# Altium footprint library 电感.PcbLib: 63 footprints (part 3 of 4)
Each footprint in its own frame and in the unit in brackets; x right, y up, seen from the top. Pads: shape width x height; smd on the part's side, far side on the other; paste and mask are expansions set on the pad; w line width, h text height; cw(c..) or ccw(c..) is an arc to the next point about the centre after c.
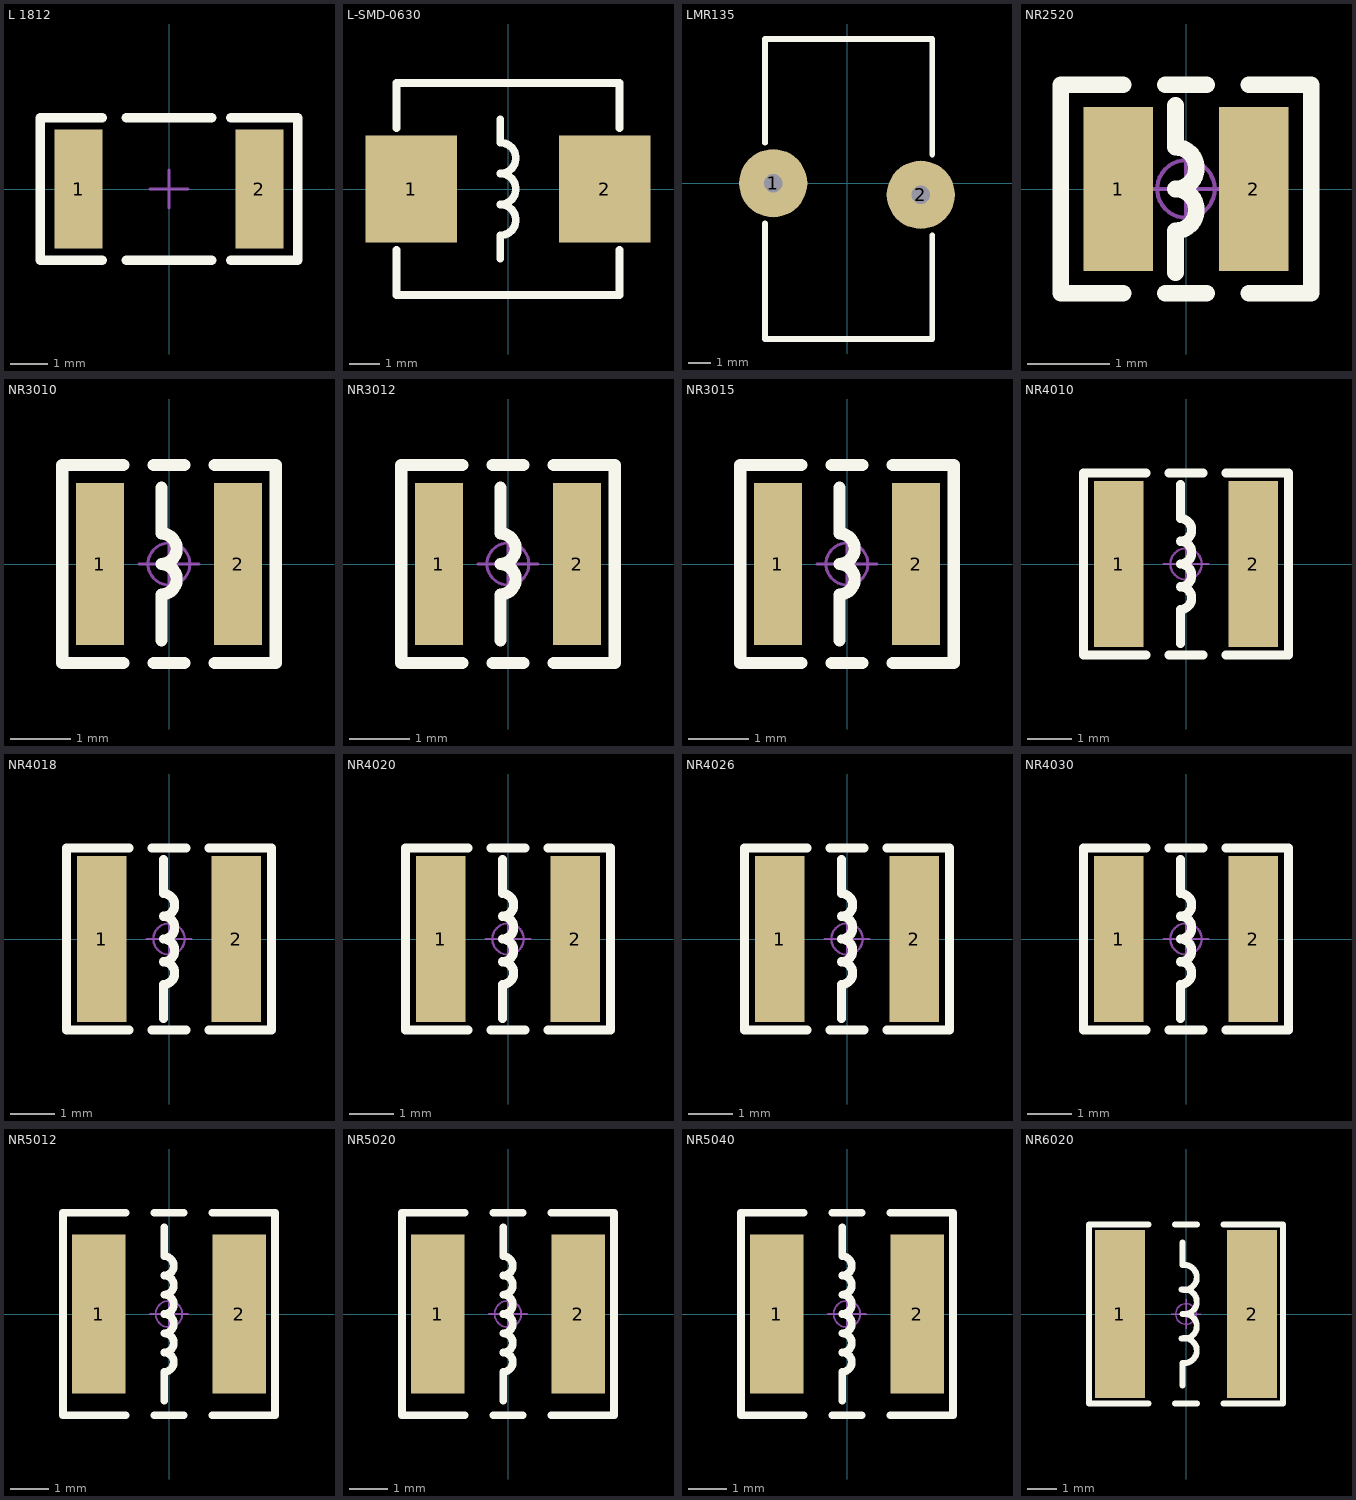
[diagram p2: the footprints below, top view; thin cyan lines are the x and y axes]

## L 1812 [mil] "小功率贴片电感"
pads (2):
  rect 50x125 smd: 1(-95,0) 2(95,0)
Top Overlay:
  lines w10: -70,-75 -135,-75 -135,75 -70,75 ; -45,-75 45,-75 ; -45,75 45,75 ; 65,-75 135,-75 135,75 65,75
Mechanical 15:
  lines w3: -20,0 20,0 ; 0,-20 0,20
3D body "1812.STEP": height 59.06, standoff -0.19, extent -88.58,-62.99 88.58,62.99

## L-SMD-0630 [mm] "一体化成型电感"
pads (2):
  rect 3x3.5 smd: 1(-3.175,0) 2(3.175,0)
Top Overlay:
  lines w0.254: -3.658,-2.007 -3.658,-3.48 3.658,-3.48 3.658,-2.007 ; -3.658,2.007 -3.658,3.48 3.658,3.48 3.658,2.007 ; -0.254,-2.286 -0.254,-1.524 ccw(c-0.254,-1.016) -0.254,-0.508 ccw(c-0.254,0) -0.254,0.508 ccw(c-0.254,1.016) -0.254,1.524 -0.254,2.286
3D body "SMD-0630.STEP": height 3.05, standoff 0.02, extent -3.475,-3.3 3.475,3.3

## LMR135 [mm] "磁环电感，外径13mm，厚度5mm"
pads (2):
  round 3 hole 0.8: 1(-3.25,0) 2(3.25,-0.508)
Top Overlay:
  lines w0.254: -3.608,-1.778 -3.608,-6.858 3.758,-6.858 3.758,-2.286 ; -3.608,1.778 -3.608,6.35 3.758,6.35 3.758,1.27
3D body "LMR135.STEP": height 12.5, standoff -3.51, extent -3.448,-6.755 3.553,6.248

## NR2520 [mm] "2.5mm*2.0mm*1.0mm(长*宽*高）"
pads (2):
  rect 0.85x2 smd: 1(-0.825,0) 2(0.825,0)
Top Overlay:
  lines w0.203: -0.762,-1.27 -1.524,-1.27 -1.524,1.27 -0.762,1.27 ; -0.254,-1.27 0.254,-1.27 ; -0.254,1.27 0.254,1.27 ; -0.127,-1.016 -0.127,-0.508 ccw(c-0.127,-0.254) -0.127,0 ccw(c-0.127,0.254) -0.127,0.508 -0.127,1.016 ; 0.762,-1.27 1.524,-1.27 1.524,1.27 0.762,1.27
Mechanical 15:
  circle w0.05: c0,0 r0.35
  lines w0.05: -0.5,0 0.5,0 ; 0,-0.5 0,0.5
3D body "NR2520.STEP": height 1.1, standoff 0, extent -1.25,-1 1.25,1

## NR3010 [mm] "3.0mm*3.0mm*1.0mm(长*宽*高）"
pads (2):
  rect 0.8x2.7 smd: 1(-1.15,0) 2(1.15,0)
Top Overlay:
  lines w0.203: -0.762,-1.651 -1.778,-1.651 -1.778,1.651 -0.762,1.651 ; -0.254,-1.651 0.254,-1.651 ; -0.254,1.651 0.254,1.651 ; -0.127,-1.27 -0.127,-0.508 ccw(c-0.127,-0.254) -0.127,0 ccw(c-0.127,0.254) -0.127,0.508 -0.127,1.27 ; 0.762,-1.651 1.778,-1.651 1.778,1.651 0.762,1.651
Mechanical 15:
  circle w0.05: c0,0 r0.35
  lines w0.05: -0.5,0 0.5,0 ; 0,-0.5 0,0.5
3D body "NR3010.STEP": height 1.15, standoff 0, extent -1.5,-1.5 1.5,1.5

## NR3012 [mm] "3.0mm*3.0mm*1.2mm(长*宽*高）"
pads (2):
  rect 0.8x2.7 smd: 1(-1.15,0) 2(1.15,0)
Top Overlay:
  lines w0.203: -0.762,-1.651 -1.778,-1.651 -1.778,1.651 -0.762,1.651 ; -0.254,-1.651 0.254,-1.651 ; -0.254,1.651 0.254,1.651 ; -0.127,-1.27 -0.127,-0.508 ccw(c-0.127,-0.254) -0.127,0 ccw(c-0.127,0.254) -0.127,0.508 -0.127,1.27 ; 0.762,-1.651 1.778,-1.651 1.778,1.651 0.762,1.651
Mechanical 15:
  circle w0.05: c0,0 r0.35
  lines w0.05: -0.5,0 0.5,0 ; 0,-0.5 0,0.5
3D body "NR3012.STEP": height 1.35, standoff 0.05, extent -1.5,-1.5 1.5,1.5

## NR3015 [mm] "3.0mm*3.0mm*1.5mm(长*宽*高）"
pads (2):
  rect 0.8x2.7 smd: 1(-1.15,0) 2(1.15,0)
Top Overlay:
  lines w0.203: -0.762,-1.651 -1.778,-1.651 -1.778,1.651 -0.762,1.651 ; -0.254,-1.651 0.254,-1.651 ; -0.254,1.651 0.254,1.651 ; -0.127,-1.27 -0.127,-0.508 ccw(c-0.127,-0.254) -0.127,0 ccw(c-0.127,0.254) -0.127,0.508 -0.127,1.27 ; 0.762,-1.651 1.778,-1.651 1.778,1.651 0.762,1.651
Mechanical 15:
  circle w0.05: c0,0 r0.35
  lines w0.05: -0.5,0 0.5,0 ; 0,-0.5 0,0.5
3D body "NR3015.STEP": height 1.6, standoff 0, extent -1.5,-1.5 1.5,1.5

## NR4010 [mm] "4.0mm*4.0mm*1.0mm(长*宽*高）"
pads (2):
  rect 1.1x3.7 smd: 1(-1.5,0) 2(1.5,0)
Top Overlay:
  lines w0.203: -0.889,-2.032 -2.286,-2.032 -2.286,2.032 -0.889,2.032 ; -0.381,-2.032 0.381,-2.032 ; -0.381,2.032 0.381,2.032 ; -0.127,-1.778 -0.127,-1.016 ccw(c-0.127,-0.762) -0.127,-0.508 ccw(c-0.127,-0.254) -0.127,0 ccw(c-0.127,0.254) -0.127,0.508 ccw(c-0.127,0.762) -0.127,1.016 -0.127,1.778 ; 0.889,-2.032 2.286,-2.032 2.286,2.032 0.889,2.032
Mechanical 15:
  circle w0.05: c0,0 r0.35
  lines w0.05: -0.5,0 0.5,0 ; 0,-0.5 0,0.5
3D body "NR4010.STEP": height 1.1, standoff 0, extent -2,-2 2,2

## NR4018 [mm] "4.0mm*4.0mm*1.8mm(长*宽*高）"
pads (2):
  rect 1.1x3.7 smd: 1(-1.5,0) 2(1.5,0)
Top Overlay:
  lines w0.203: -0.889,-2.032 -2.286,-2.032 -2.286,2.032 -0.889,2.032 ; -0.381,-2.032 0.381,-2.032 ; -0.381,2.032 0.381,2.032 ; -0.127,-1.778 -0.127,-1.016 ccw(c-0.127,-0.762) -0.127,-0.508 ccw(c-0.127,-0.254) -0.127,0 ccw(c-0.127,0.254) -0.127,0.508 ccw(c-0.127,0.762) -0.127,1.016 -0.127,1.778 ; 0.889,-2.032 2.286,-2.032 2.286,2.032 0.889,2.032
Mechanical 15:
  circle w0.05: c0,0 r0.35
  lines w0.05: -0.5,0 0.5,0 ; 0,-0.5 0,0.5
3D body "NR4018.STEP": height 1.9, standoff 0, extent -2,-2 2,2

## NR4020 [mm] "4.0mm*4.0mm*2.0mm(长*宽*高）"
pads (2):
  rect 1.1x3.7 smd: 1(-1.5,0) 2(1.5,0)
Top Overlay:
  lines w0.203: -0.889,-2.032 -2.286,-2.032 -2.286,2.032 -0.889,2.032 ; -0.381,-2.032 0.381,-2.032 ; -0.381,2.032 0.381,2.032 ; -0.127,-1.778 -0.127,-1.016 ccw(c-0.127,-0.762) -0.127,-0.508 ccw(c-0.127,-0.254) -0.127,0 ccw(c-0.127,0.254) -0.127,0.508 ccw(c-0.127,0.762) -0.127,1.016 -0.127,1.778 ; 0.889,-2.032 2.286,-2.032 2.286,2.032 0.889,2.032
Mechanical 15:
  circle w0.05: c0,0 r0.35
  lines w0.05: -0.5,0 0.5,0 ; 0,-0.5 0,0.5
3D body "NR4020.STEP": height 2.1, standoff 0, extent -2,-2 2,2

## NR4026 [mm] "4.0mm*4.0mm*2.6mm(长*宽*高）"
pads (2):
  rect 1.1x3.7 smd: 1(-1.5,0) 2(1.5,0)
Top Overlay:
  lines w0.203: -0.889,-2.032 -2.286,-2.032 -2.286,2.032 -0.889,2.032 ; -0.381,-2.032 0.381,-2.032 ; -0.381,2.032 0.381,2.032 ; -0.127,-1.778 -0.127,-1.016 ccw(c-0.127,-0.762) -0.127,-0.508 ccw(c-0.127,-0.254) -0.127,0 ccw(c-0.127,0.254) -0.127,0.508 ccw(c-0.127,0.762) -0.127,1.016 -0.127,1.778 ; 0.889,-2.032 2.286,-2.032 2.286,2.032 0.889,2.032
Mechanical 15:
  circle w0.05: c0,0 r0.35
  lines w0.05: -0.5,0 0.5,0 ; 0,-0.5 0,0.5
3D body "NR4026.STEP": height 2.7, standoff 0, extent -2,-2 2,2

## NR4030 [mm] "4.0mm*4.0mm*3.0mm(长*宽*高）"
pads (2):
  rect 1.1x3.7 smd: 1(-1.5,0) 2(1.5,0)
Top Overlay:
  lines w0.203: -0.889,-2.032 -2.286,-2.032 -2.286,2.032 -0.889,2.032 ; -0.381,-2.032 0.381,-2.032 ; -0.381,2.032 0.381,2.032 ; -0.127,-1.778 -0.127,-1.016 ccw(c-0.127,-0.762) -0.127,-0.508 ccw(c-0.127,-0.254) -0.127,0 ccw(c-0.127,0.254) -0.127,0.508 ccw(c-0.127,0.762) -0.127,1.016 -0.127,1.778 ; 0.889,-2.032 2.286,-2.032 2.286,2.032 0.889,2.032
Mechanical 15:
  circle w0.05: c0,0 r0.35
  lines w0.05: -0.5,0 0.5,0 ; 0,-0.5 0,0.5
3D body "NR4030.STEP": height 3.1, standoff 0, extent -2,-2 2,2

## NR5012 [mm] "5.0mm*5.0mm*1.2mm(长*宽*高）"
pads (2):
  rect 1.4x4.2 smd: 1(-1.85,0) 2(1.85,0)
Top Overlay:
  lines w0.203: -1.143,-2.667 -2.794,-2.667 -2.794,2.667 -1.143,2.667 ; -0.381,-2.667 0.381,-2.667 ; -0.381,2.667 0.381,2.667 ; -0.127,-2.286 -0.127,-1.524 ccw(c-0.127,-1.27) -0.127,-1.016 ccw(c-0.127,-0.762) -0.127,-0.508 ccw(c-0.127,-0.254) -0.127,0 ccw(c-0.127,0.254) -0.127,0.508 ccw(c-0.127,0.762) -0.127,1.016 ccw(c-0.127,1.27) -0.127,1.524 -0.127,2.286 ; 1.143,-2.667 2.794,-2.667 2.794,2.667 1.143,2.667
Mechanical 15:
  circle w0.05: c0,0 r0.35
  lines w0.05: -0.5,0 0.5,0 ; 0,-0.5 0,0.5
3D body "NR5012.STEP": height 1.3, standoff 0, extent -2.5,-2.5 2.5,2.5

## NR5020 [mm] "5.0mm*5.0mm*2.0mm(长*宽*高）"
pads (2):
  rect 1.4x4.2 smd: 1(-1.85,0) 2(1.85,0)
Top Overlay:
  lines w0.203: -1.143,-2.667 -2.794,-2.667 -2.794,2.667 -1.143,2.667 ; -0.381,-2.667 0.381,-2.667 ; -0.381,2.667 0.381,2.667 ; -0.127,-2.286 -0.127,-1.524 ccw(c-0.127,-1.27) -0.127,-1.016 ccw(c-0.127,-0.762) -0.127,-0.508 ccw(c-0.127,-0.254) -0.127,0 ccw(c-0.127,0.254) -0.127,0.508 ccw(c-0.127,0.762) -0.127,1.016 ccw(c-0.127,1.27) -0.127,1.524 -0.127,2.286 ; 1.143,-2.667 2.794,-2.667 2.794,2.667 1.143,2.667
Mechanical 15:
  circle w0.05: c0,0 r0.35
  lines w0.05: -0.5,0 0.5,0 ; 0,-0.5 0,0.5
3D body "NR5020.STEP": height 2.1, standoff 0, extent -2.5,-2.5 2.5,2.5

## NR5040 [mm] "5.0mm*5.0mm*4.0mm(长*宽*高）"
pads (2):
  rect 1.4x4.2 smd: 1(-1.85,0) 2(1.85,0)
Top Overlay:
  lines w0.203: -1.143,-2.667 -2.794,-2.667 -2.794,2.667 -1.143,2.667 ; -0.381,-2.667 0.381,-2.667 ; -0.381,2.667 0.381,2.667 ; -0.127,-2.286 -0.127,-1.524 ccw(c-0.127,-1.27) -0.127,-1.016 ccw(c-0.127,-0.762) -0.127,-0.508 ccw(c-0.127,-0.254) -0.127,0 ccw(c-0.127,0.254) -0.127,0.508 ccw(c-0.127,0.762) -0.127,1.016 ccw(c-0.127,1.27) -0.127,1.524 -0.127,2.286 ; 1.143,-2.667 2.794,-2.667 2.794,2.667 1.143,2.667
Mechanical 15:
  circle w0.05: c0,0 r0.35
  lines w0.05: -0.5,0 0.5,0 ; 0,-0.5 0,0.5
3D body "NR5040.STEP": height 4.1, standoff 0, extent -2.5,-2.5 2.5,2.5

## NR6020 [mm] "6.0mm*6.0mm*2.0mm(长*宽*高）"
pads (2):
  rect 1.7x5.7 smd: 1(-2.25,0) 2(2.25,0)
Top Overlay:
  lines w0.203: -1.27,-3.048 -3.302,-3.048 -3.302,3.048 -1.27,3.048 ; -0.381,-3.048 0.381,-3.048 ; -0.381,3.048 0.381,3.048 ; -0.127,-2.424 -0.127,-1.662 ccw(c-0.057,-1.244) -0.149,-0.831 ccw(c-0.057,-0.418) -0.127,0 ccw(c-0.057,0.418) -0.149,0.831 ccw(c-0.057,1.244) -0.127,1.662 -0.127,2.424 ; 1.27,-3.048 3.302,-3.048 3.302,3.048 1.27,3.048
Mechanical 15:
  circle w0.05: c0,0 r0.35
  lines w0.05: -0.5,0 0.5,0 ; 0,-0.5 0,0.5
3D body "NR6020.STEP": height 2.1, standoff 0, extent -3,-3 3,3